# EAGLE library part WE-FB_LT3751_EFD20 (library WE-FB_LT3751_EFD20)
Flyback Converter WE-FB for LT3751 - designd for LT3751
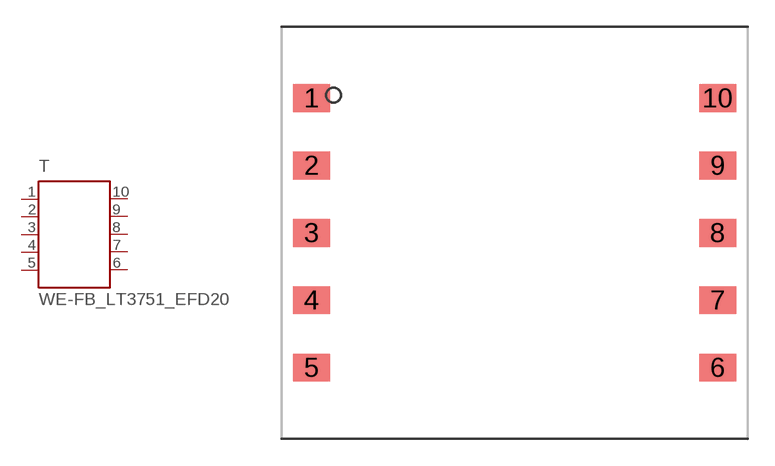
[diagram p0: symbol with the pads of WE_EFD20_SMD_10PIN; footprint WE_EFD20_SMD_10PIN]

Designator prefix T

## WE-FB_LT3751_EFD20-750032051 (MPN: 750032051; OC_FARNELL: 1748692; OC_NEWARK: 34R6105; PACKAGE: EFD20_SMD_10PIN; SUPPLIER: Würth Elektronik eiSos GmbH), WE-FB_LT3751_EFD20-750032052 (MPN: 750032052; OC_FARNELL: 1748693; OC_NEWARK: 34R6106; PACKAGE: EFD20_SMD_10PIN; SUPPLIER: Würth Elektronik eiSos GmbH)  [WE_EFD20_SMD_10PIN]
1  1  pas
2  2  pas
3  3  pas
4  4  pas
5  5  pas
6  6  pas
7  7  pas
8  8  pas
9  9  pas
10  10  pas

## Footprint WE_EFD20_SMD_10PIN (pad centres in mm)
Transformer, EFD20 SMD 10 Pin
smd 2.08 x 1.55: 1 -11.33,7.52; 2 -11.33,3.76; 3 -11.33,0; 4 -11.33,-3.76; 5 -11.33,-7.52; 6 11.33,-7.52; 7 11.33,-3.76; 8 11.33,0; 9 11.33,3.76; 10 11.33,7.52